# Altium integrated library Altera ACEX 1K.IntLib: 67 symbols (part 7 of 7)
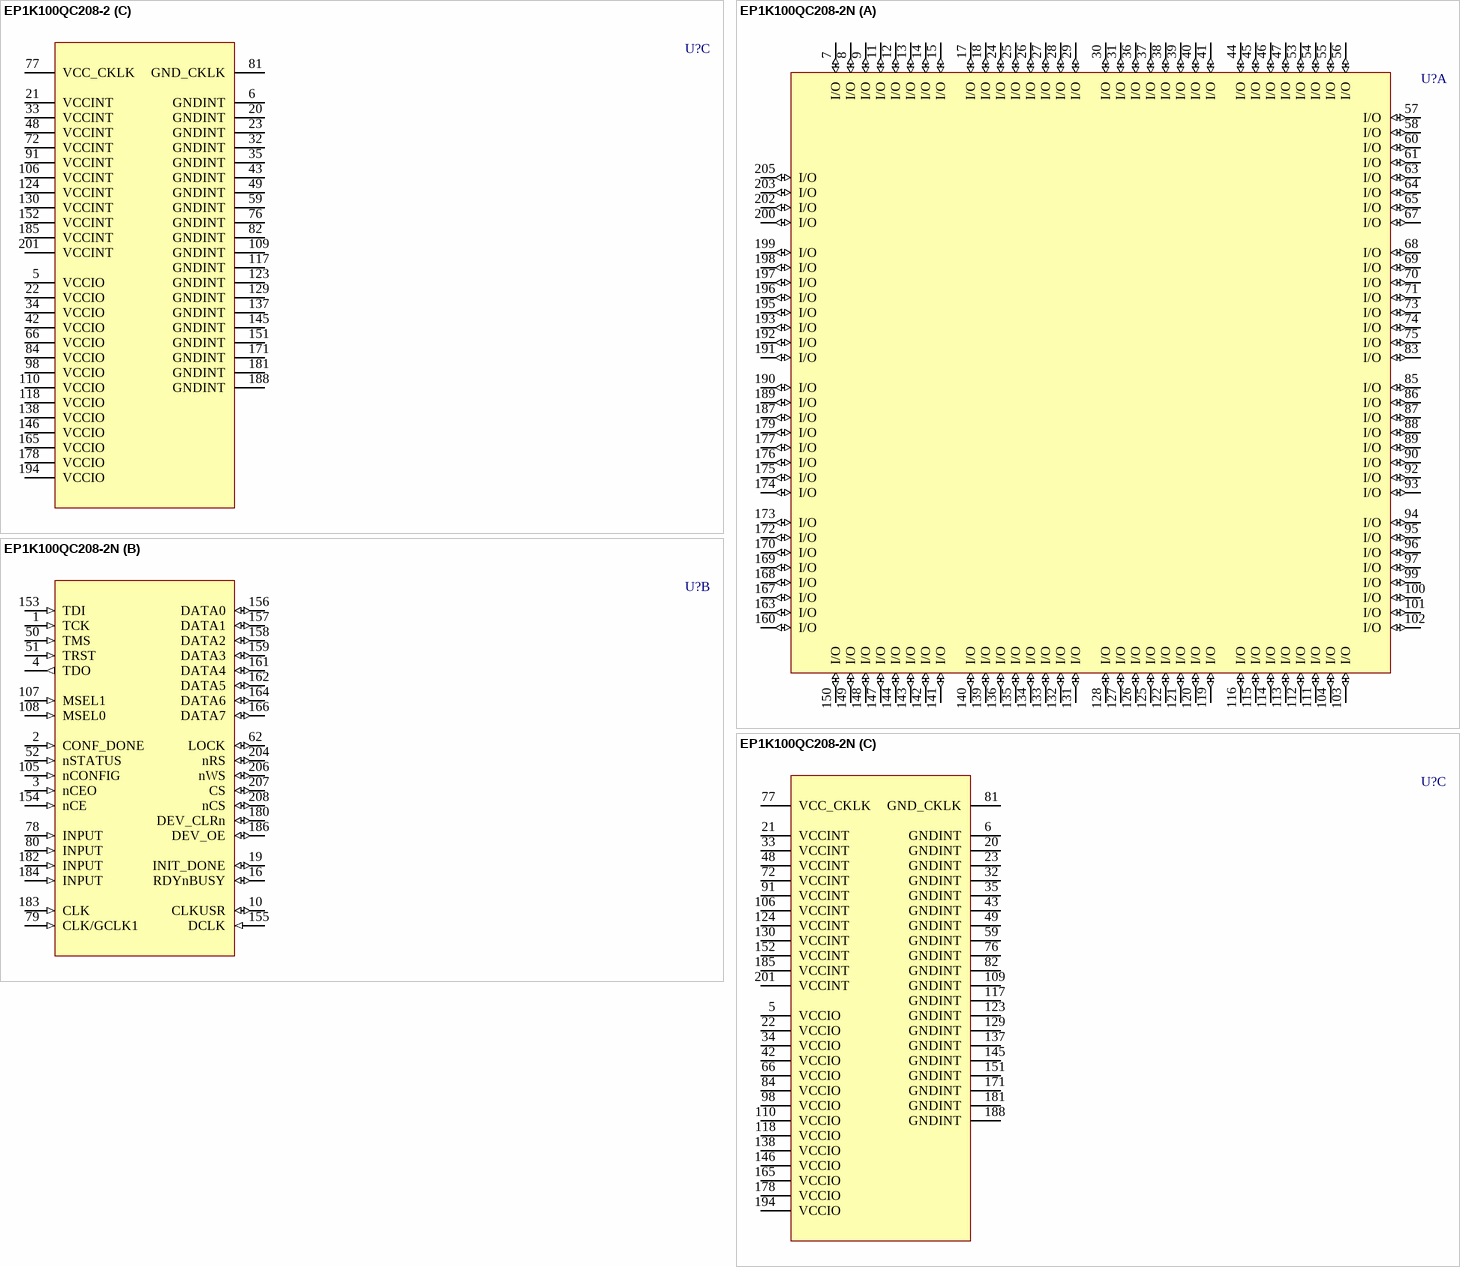
[diagram p79: symbols EP1K100QC208-2 to EP1K100QC208-2N]

## EP1K100QC208-2
designator U?
ACEX 1K PLD with 147 I/O Pins, 208-pin PQFP, Commercial Grade, Speed Grade 2; Published: 17-Jul-2002; LatestRevisionDate: 13-Apr-2006; LatestRevisionNote: IPC-7351 Footprint Added.; DatasheetVersion: May-2003; PackageVersion: ver14.1, Oct-2005; PackageReference: PQFP208; Publisher: Altium Limited; PackageDescription: 208-Pin Plastic Quad Flat Pack (PQFP208); Code_JEDEC: MS-029-FA-1; ComponentLink1Description: Manufacturer Link; ComponentLink1URL: http://www.altera.com/products/devices/acex/acx-index.html; ComponentLink2Description: Datasheet; ComponentLink2URL: http://www.altera.com/literature/ds/acex.pdf
footprint PQFP208_N (Shrink QFP, 208-Leads, Body 28x28mm, Pitch 0.5mm, IPC Medium Density)
footprint PQFP208_L (Shrink QFP, 208-Leads, Body 28x28mm, Pitch 0.5mm, IPC High Density)
footprint PQFP208_M (Shrink QFP, 208-Leads, Body 28x28mm, Pitch 0.5mm, IPC Low Density)
3D model EP1K100-PQFP208 (208-Pin Plastic Quad Flat Pack (PQFP208))
part A pins: 7 I/O (io), 8 I/O (io), 9 I/O (io), 11 I/O (io), 12 I/O (io), 13 I/O (io), 14 I/O (io), 15 I/O (io), 17 I/O (io), 18 I/O (io), 24 I/O (io), 25 I/O (io), 26 I/O (io), 27 I/O (io), 28 I/O (io), 29 I/O (io), 30 I/O (io), 31 I/O (io), 36 I/O (io), 37 I/O (io), 38 I/O (io), 39 I/O (io), 40 I/O (io), 41 I/O (io), 44 I/O (io), 45 I/O (io), 46 I/O (io), 47 I/O (io), 53 I/O (io), 54 I/O (io), 55 I/O (io), 56 I/O (io), 57 I/O (io), 58 I/O (io), 60 I/O (io), 61 I/O (io), 63 I/O (io), 64 I/O (io), 65 I/O (io), 67 I/O (io), 68 I/O (io), 69 I/O (io), 70 I/O (io), 71 I/O (io), 73 I/O (io), 74 I/O (io), 75 I/O (io), 83 I/O (io), 85 I/O (io), 86 I/O (io), 87 I/O (io), 88 I/O (io), 89 I/O (io), 90 I/O (io), 92 I/O (io), 93 I/O (io), 94 I/O (io), 95 I/O (io), 96 I/O (io), 97 I/O (io), 99 I/O (io), 100 I/O (io), 101 I/O (io), 102 I/O (io), 103 I/O (io), 104 I/O (io), 111 I/O (io), 112 I/O (io), 113 I/O (io), 114 I/O (io), 115 I/O (io), 116 I/O (io), 119 I/O (io), 120 I/O (io), 121 I/O (io), 122 I/O (io), 125 I/O (io), 126 I/O (io), 127 I/O (io), 128 I/O (io), 131 I/O (io), 132 I/O (io), 133 I/O (io), 134 I/O (io), 135 I/O (io), 136 I/O (io), 139 I/O (io), 140 I/O (io), 141 I/O (io), 142 I/O (io), 143 I/O (io), 144 I/O (io), 147 I/O (io), 148 I/O (io), 149 I/O (io), 150 I/O (io), 160 I/O (io), 163 I/O (io), 167 I/O (io), 168 I/O (io), 169 I/O (io), 170 I/O (io), 172 I/O (io), 173 I/O (io), 174 I/O (io), 175 I/O (io), 176 I/O (io), 177 I/O (io), 179 I/O (io), 187 I/O (io), 189 I/O (io), 190 I/O (io), 191 I/O (io), 192 I/O (io), 193 I/O (io), 195 I/O (io), 196 I/O (io), 197 I/O (io), 198 I/O (io), 199 I/O (io), 200 I/O (io), 202 I/O (io), 203 I/O (io), 205 I/O (io)
part B pins: 1 TCK (in), 2 CONF_DONE (in), 3 nCEO (in), 4 TDO (out), 10 CLKUSR (io), 16 RDYnBUSY (io), 19 INIT_DONE (io), 50 TMS (in), 51 TRST (in), 52 nSTATUS (in), 62 LOCK (io), 78 INPUT (in), 79 CLK/GCLK1 (in), 80 INPUT (in), 105 nCONFIG (in), 107 MSEL1 (in), 108 MSEL0 (in), 153 TDI (in), 154 nCE (in), 155 DCLK (in), 156 DATA0 (io), 157 DATA1 (io), 158 DATA2 (io), 159 DATA3 (io), 161 DATA4 (io), 162 DATA5 (io), 164 DATA6 (io), 166 DATA7 (io), 180 DEV_CLRn (io), 182 INPUT (in), 183 CLK (in), 184 INPUT (in), 186 DEV_OE (io), 204 nRS (io), 206 nWS (io), 207 CS (io), 208 nCS (io)
part C pins: 5 VCCIO (power), 6 GNDINT (power), 20 GNDINT (power), 21 VCCINT (power), 22 VCCIO (power), 23 GNDINT (power), 32 GNDINT (power), 33 VCCINT (power), 34 VCCIO (power), 35 GNDINT (power), 42 VCCIO (power), 43 GNDINT (power), 48 VCCINT (power), 49 GNDINT (power), 59 GNDINT (power), 66 VCCIO (power), 72 VCCINT (power), 76 GNDINT (power), 77 VCC_CKLK (power), 81 GND_CKLK (power), 82 GNDINT (power), 84 VCCIO (power), 91 VCCINT (power), 98 VCCIO (power), 106 VCCINT (power), 109 GNDINT (power), 110 VCCIO (power), 117 GNDINT (power), 118 VCCIO (power), 123 GNDINT (power), 124 VCCINT (power), 129 GNDINT (power), 130 VCCINT (power), 137 GNDINT (power), 138 VCCIO (power), 145 GNDINT (power), 146 VCCIO (power), 151 GNDINT (power), 152 VCCINT (power), 165 VCCIO (power), 171 GNDINT (power), 178 VCCIO (power), 181 GNDINT (power), 185 VCCINT (power), 188 GNDINT (power), 194 VCCIO (power), 201 VCCINT (power)

## EP1K100QC208-2N
designator U?
ACEX 1K PLD with 147 I/O Pins, 208-pin PQFP, Commercial Grade, Speed Grade 2, Pb-Free; Published: 4-Mar-2005; LatestRevisionDate: 13-Apr-2006; LatestRevisionNote: IPC-7351 Footprint Added.; DatasheetVersion: May-2003; PackageVersion: ver14.1, Oct-2005; PackageReference: PQFP208; Publisher: Altium Limited; PackageDescription: 208-Pin Plastic Quad Flat Pack (PQFP208); Code_JEDEC: MS-029-FA-1; ComponentLink1Description: Manufacturer Link; ComponentLink1URL: http://www.altera.com/products/devices/acex/acx-index.html; ComponentLink2Description: Datasheet; ComponentLink2URL: http://www.altera.com/literature/ds/acex.pdf
footprint PQFP208_N (Shrink QFP, 208-Leads, Body 28x28mm, Pitch 0.5mm, IPC Medium Density)
footprint PQFP208_L (Shrink QFP, 208-Leads, Body 28x28mm, Pitch 0.5mm, IPC High Density)
footprint PQFP208_M (Shrink QFP, 208-Leads, Body 28x28mm, Pitch 0.5mm, IPC Low Density)
3D model EP1K100-PQFP208 (208-Pin Plastic Quad Flat Pack (PQFP208))
part A pins: 7 I/O (io), 8 I/O (io), 9 I/O (io), 11 I/O (io), 12 I/O (io), 13 I/O (io), 14 I/O (io), 15 I/O (io), 17 I/O (io), 18 I/O (io), 24 I/O (io), 25 I/O (io), 26 I/O (io), 27 I/O (io), 28 I/O (io), 29 I/O (io), 30 I/O (io), 31 I/O (io), 36 I/O (io), 37 I/O (io), 38 I/O (io), 39 I/O (io), 40 I/O (io), 41 I/O (io), 44 I/O (io), 45 I/O (io), 46 I/O (io), 47 I/O (io), 53 I/O (io), 54 I/O (io), 55 I/O (io), 56 I/O (io), 57 I/O (io), 58 I/O (io), 60 I/O (io), 61 I/O (io), 63 I/O (io), 64 I/O (io), 65 I/O (io), 67 I/O (io), 68 I/O (io), 69 I/O (io), 70 I/O (io), 71 I/O (io), 73 I/O (io), 74 I/O (io), 75 I/O (io), 83 I/O (io), 85 I/O (io), 86 I/O (io), 87 I/O (io), 88 I/O (io), 89 I/O (io), 90 I/O (io), 92 I/O (io), 93 I/O (io), 94 I/O (io), 95 I/O (io), 96 I/O (io), 97 I/O (io), 99 I/O (io), 100 I/O (io), 101 I/O (io), 102 I/O (io), 103 I/O (io), 104 I/O (io), 111 I/O (io), 112 I/O (io), 113 I/O (io), 114 I/O (io), 115 I/O (io), 116 I/O (io), 119 I/O (io), 120 I/O (io), 121 I/O (io), 122 I/O (io), 125 I/O (io), 126 I/O (io), 127 I/O (io), 128 I/O (io), 131 I/O (io), 132 I/O (io), 133 I/O (io), 134 I/O (io), 135 I/O (io), 136 I/O (io), 139 I/O (io), 140 I/O (io), 141 I/O (io), 142 I/O (io), 143 I/O (io), 144 I/O (io), 147 I/O (io), 148 I/O (io), 149 I/O (io), 150 I/O (io), 160 I/O (io), 163 I/O (io), 167 I/O (io), 168 I/O (io), 169 I/O (io), 170 I/O (io), 172 I/O (io), 173 I/O (io), 174 I/O (io), 175 I/O (io), 176 I/O (io), 177 I/O (io), 179 I/O (io), 187 I/O (io), 189 I/O (io), 190 I/O (io), 191 I/O (io), 192 I/O (io), 193 I/O (io), 195 I/O (io), 196 I/O (io), 197 I/O (io), 198 I/O (io), 199 I/O (io), 200 I/O (io), 202 I/O (io), 203 I/O (io), 205 I/O (io)
part B pins: 1 TCK (in), 2 CONF_DONE (in), 3 nCEO (in), 4 TDO (out), 10 CLKUSR (io), 16 RDYnBUSY (io), 19 INIT_DONE (io), 50 TMS (in), 51 TRST (in), 52 nSTATUS (in), 62 LOCK (io), 78 INPUT (in), 79 CLK/GCLK1 (in), 80 INPUT (in), 105 nCONFIG (in), 107 MSEL1 (in), 108 MSEL0 (in), 153 TDI (in), 154 nCE (in), 155 DCLK (in), 156 DATA0 (io), 157 DATA1 (io), 158 DATA2 (io), 159 DATA3 (io), 161 DATA4 (io), 162 DATA5 (io), 164 DATA6 (io), 166 DATA7 (io), 180 DEV_CLRn (io), 182 INPUT (in), 183 CLK (in), 184 INPUT (in), 186 DEV_OE (io), 204 nRS (io), 206 nWS (io), 207 CS (io), 208 nCS (io)
part C pins: 5 VCCIO (power), 6 GNDINT (power), 20 GNDINT (power), 21 VCCINT (power), 22 VCCIO (power), 23 GNDINT (power), 32 GNDINT (power), 33 VCCINT (power), 34 VCCIO (power), 35 GNDINT (power), 42 VCCIO (power), 43 GNDINT (power), 48 VCCINT (power), 49 GNDINT (power), 59 GNDINT (power), 66 VCCIO (power), 72 VCCINT (power), 76 GNDINT (power), 77 VCC_CKLK (power), 81 GND_CKLK (power), 82 GNDINT (power), 84 VCCIO (power), 91 VCCINT (power), 98 VCCIO (power), 106 VCCINT (power), 109 GNDINT (power), 110 VCCIO (power), 117 GNDINT (power), 118 VCCIO (power), 123 GNDINT (power), 124 VCCINT (power), 129 GNDINT (power), 130 VCCINT (power), 137 GNDINT (power), 138 VCCIO (power), 145 GNDINT (power), 146 VCCIO (power), 151 GNDINT (power), 152 VCCINT (power), 165 VCCIO (power), 171 GNDINT (power), 178 VCCIO (power), 181 GNDINT (power), 185 VCCINT (power), 188 GNDINT (power), 194 VCCIO (power), 201 VCCINT (power)

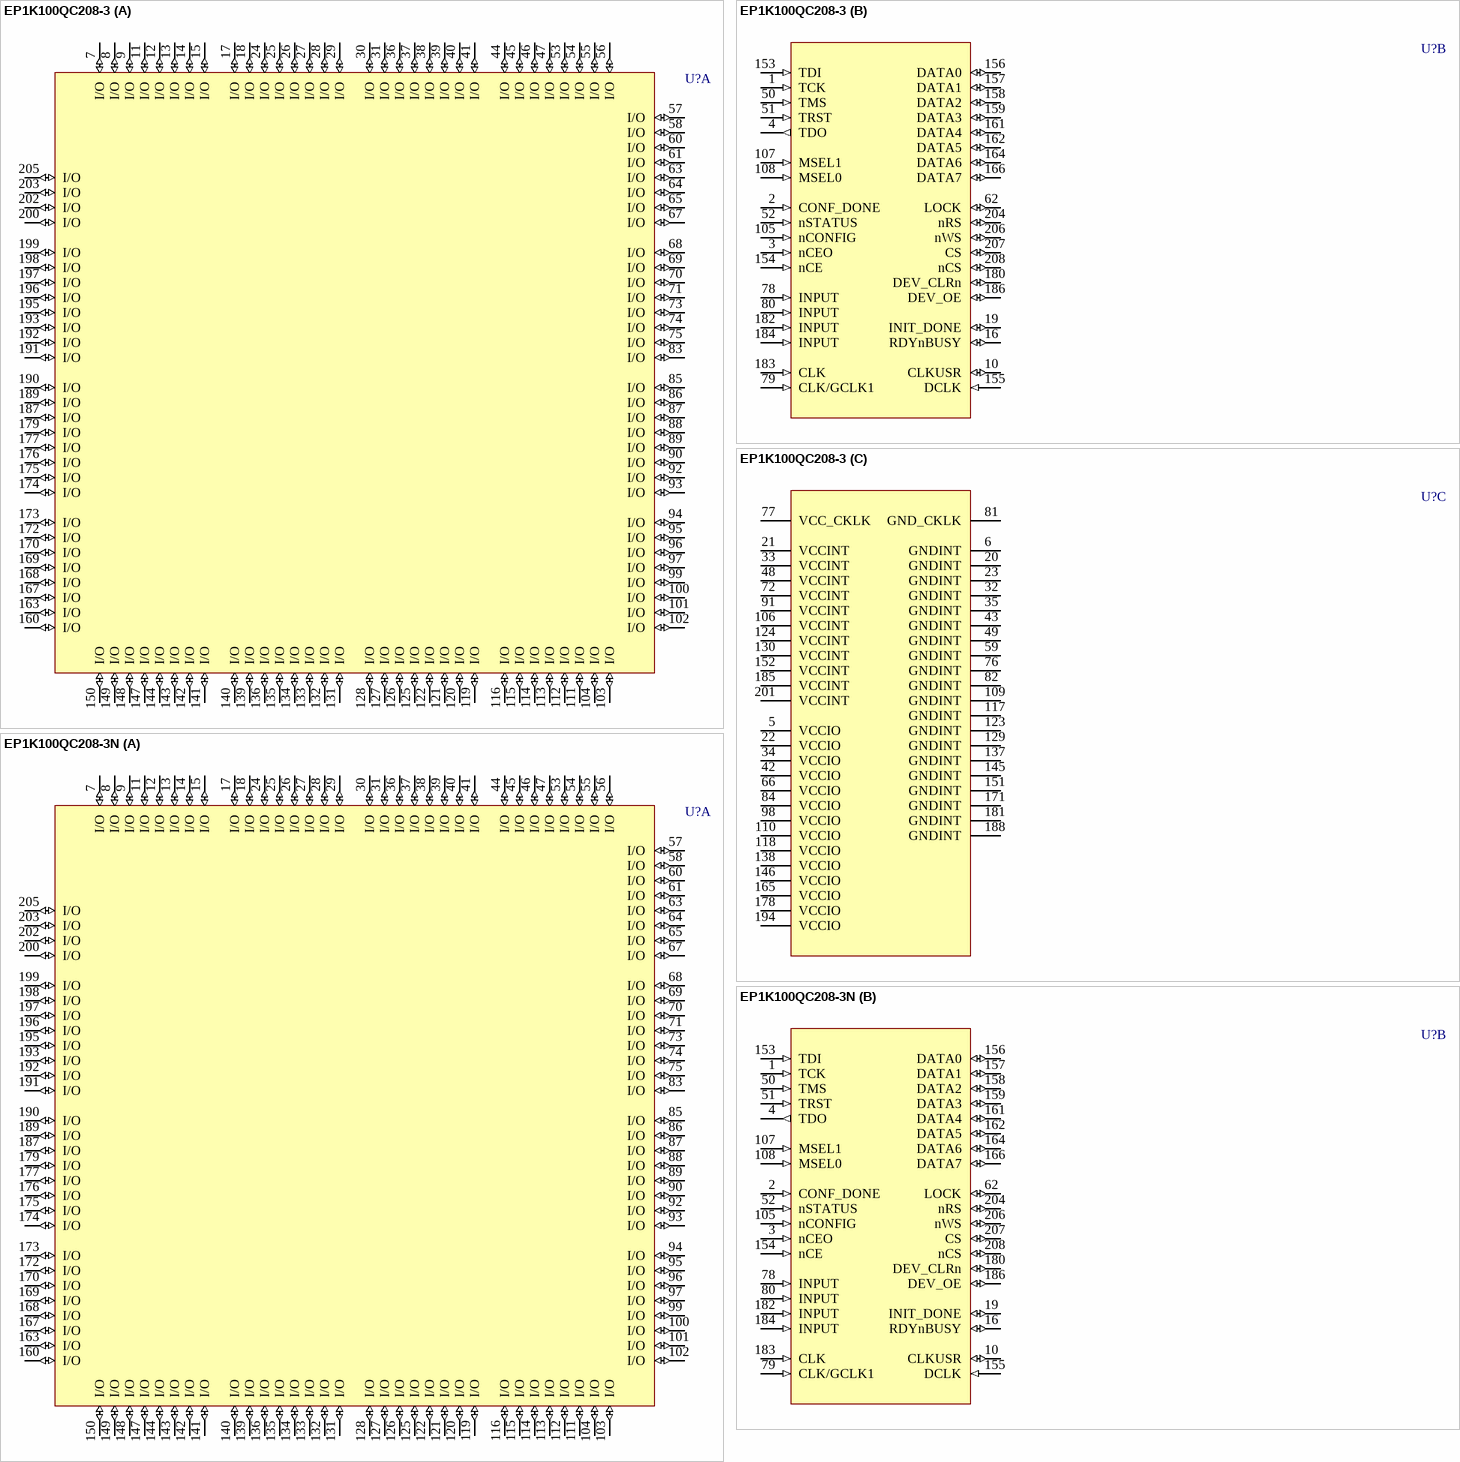
[diagram p72: symbols EP1K100QC208-3 to EP1K100QC208-3N]

## EP1K100QC208-3
designator U?
ACEX 1K PLD with 147 I/O Pins, 208-pin PQFP, Commercial Grade, Speed Grade 3; Published: 17-Jul-2002; LatestRevisionDate: 13-Apr-2006; LatestRevisionNote: IPC-7351 Footprint Added.; DatasheetVersion: May-2003; PackageVersion: ver14.1, Oct-2005; PackageReference: PQFP208; Publisher: Altium Limited; PackageDescription: 208-Pin Plastic Quad Flat Pack (PQFP208); Code_JEDEC: MS-029-FA-1; ComponentLink1Description: Manufacturer Link; ComponentLink1URL: http://www.altera.com/products/devices/acex/acx-index.html; ComponentLink2Description: Datasheet; ComponentLink2URL: http://www.altera.com/literature/ds/acex.pdf
footprint PQFP208_N (Shrink QFP, 208-Leads, Body 28x28mm, Pitch 0.5mm, IPC Medium Density)
footprint PQFP208_L (Shrink QFP, 208-Leads, Body 28x28mm, Pitch 0.5mm, IPC High Density)
footprint PQFP208_M (Shrink QFP, 208-Leads, Body 28x28mm, Pitch 0.5mm, IPC Low Density)
3D model EP1K100-PQFP208 (208-Pin Plastic Quad Flat Pack (PQFP208))
part A pins: 7 I/O (io), 8 I/O (io), 9 I/O (io), 11 I/O (io), 12 I/O (io), 13 I/O (io), 14 I/O (io), 15 I/O (io), 17 I/O (io), 18 I/O (io), 24 I/O (io), 25 I/O (io), 26 I/O (io), 27 I/O (io), 28 I/O (io), 29 I/O (io), 30 I/O (io), 31 I/O (io), 36 I/O (io), 37 I/O (io), 38 I/O (io), 39 I/O (io), 40 I/O (io), 41 I/O (io), 44 I/O (io), 45 I/O (io), 46 I/O (io), 47 I/O (io), 53 I/O (io), 54 I/O (io), 55 I/O (io), 56 I/O (io), 57 I/O (io), 58 I/O (io), 60 I/O (io), 61 I/O (io), 63 I/O (io), 64 I/O (io), 65 I/O (io), 67 I/O (io), 68 I/O (io), 69 I/O (io), 70 I/O (io), 71 I/O (io), 73 I/O (io), 74 I/O (io), 75 I/O (io), 83 I/O (io), 85 I/O (io), 86 I/O (io), 87 I/O (io), 88 I/O (io), 89 I/O (io), 90 I/O (io), 92 I/O (io), 93 I/O (io), 94 I/O (io), 95 I/O (io), 96 I/O (io), 97 I/O (io), 99 I/O (io), 100 I/O (io), 101 I/O (io), 102 I/O (io), 103 I/O (io), 104 I/O (io), 111 I/O (io), 112 I/O (io), 113 I/O (io), 114 I/O (io), 115 I/O (io), 116 I/O (io), 119 I/O (io), 120 I/O (io), 121 I/O (io), 122 I/O (io), 125 I/O (io), 126 I/O (io), 127 I/O (io), 128 I/O (io), 131 I/O (io), 132 I/O (io), 133 I/O (io), 134 I/O (io), 135 I/O (io), 136 I/O (io), 139 I/O (io), 140 I/O (io), 141 I/O (io), 142 I/O (io), 143 I/O (io), 144 I/O (io), 147 I/O (io), 148 I/O (io), 149 I/O (io), 150 I/O (io), 160 I/O (io), 163 I/O (io), 167 I/O (io), 168 I/O (io), 169 I/O (io), 170 I/O (io), 172 I/O (io), 173 I/O (io), 174 I/O (io), 175 I/O (io), 176 I/O (io), 177 I/O (io), 179 I/O (io), 187 I/O (io), 189 I/O (io), 190 I/O (io), 191 I/O (io), 192 I/O (io), 193 I/O (io), 195 I/O (io), 196 I/O (io), 197 I/O (io), 198 I/O (io), 199 I/O (io), 200 I/O (io), 202 I/O (io), 203 I/O (io), 205 I/O (io)
part B pins: 1 TCK (in), 2 CONF_DONE (in), 3 nCEO (in), 4 TDO (out), 10 CLKUSR (io), 16 RDYnBUSY (io), 19 INIT_DONE (io), 50 TMS (in), 51 TRST (in), 52 nSTATUS (in), 62 LOCK (io), 78 INPUT (in), 79 CLK/GCLK1 (in), 80 INPUT (in), 105 nCONFIG (in), 107 MSEL1 (in), 108 MSEL0 (in), 153 TDI (in), 154 nCE (in), 155 DCLK (in), 156 DATA0 (io), 157 DATA1 (io), 158 DATA2 (io), 159 DATA3 (io), 161 DATA4 (io), 162 DATA5 (io), 164 DATA6 (io), 166 DATA7 (io), 180 DEV_CLRn (io), 182 INPUT (in), 183 CLK (in), 184 INPUT (in), 186 DEV_OE (io), 204 nRS (io), 206 nWS (io), 207 CS (io), 208 nCS (io)
part C pins: 5 VCCIO (power), 6 GNDINT (power), 20 GNDINT (power), 21 VCCINT (power), 22 VCCIO (power), 23 GNDINT (power), 32 GNDINT (power), 33 VCCINT (power), 34 VCCIO (power), 35 GNDINT (power), 42 VCCIO (power), 43 GNDINT (power), 48 VCCINT (power), 49 GNDINT (power), 59 GNDINT (power), 66 VCCIO (power), 72 VCCINT (power), 76 GNDINT (power), 77 VCC_CKLK (power), 81 GND_CKLK (power), 82 GNDINT (power), 84 VCCIO (power), 91 VCCINT (power), 98 VCCIO (power), 106 VCCINT (power), 109 GNDINT (power), 110 VCCIO (power), 117 GNDINT (power), 118 VCCIO (power), 123 GNDINT (power), 124 VCCINT (power), 129 GNDINT (power), 130 VCCINT (power), 137 GNDINT (power), 138 VCCIO (power), 145 GNDINT (power), 146 VCCIO (power), 151 GNDINT (power), 152 VCCINT (power), 165 VCCIO (power), 171 GNDINT (power), 178 VCCIO (power), 181 GNDINT (power), 185 VCCINT (power), 188 GNDINT (power), 194 VCCIO (power), 201 VCCINT (power)

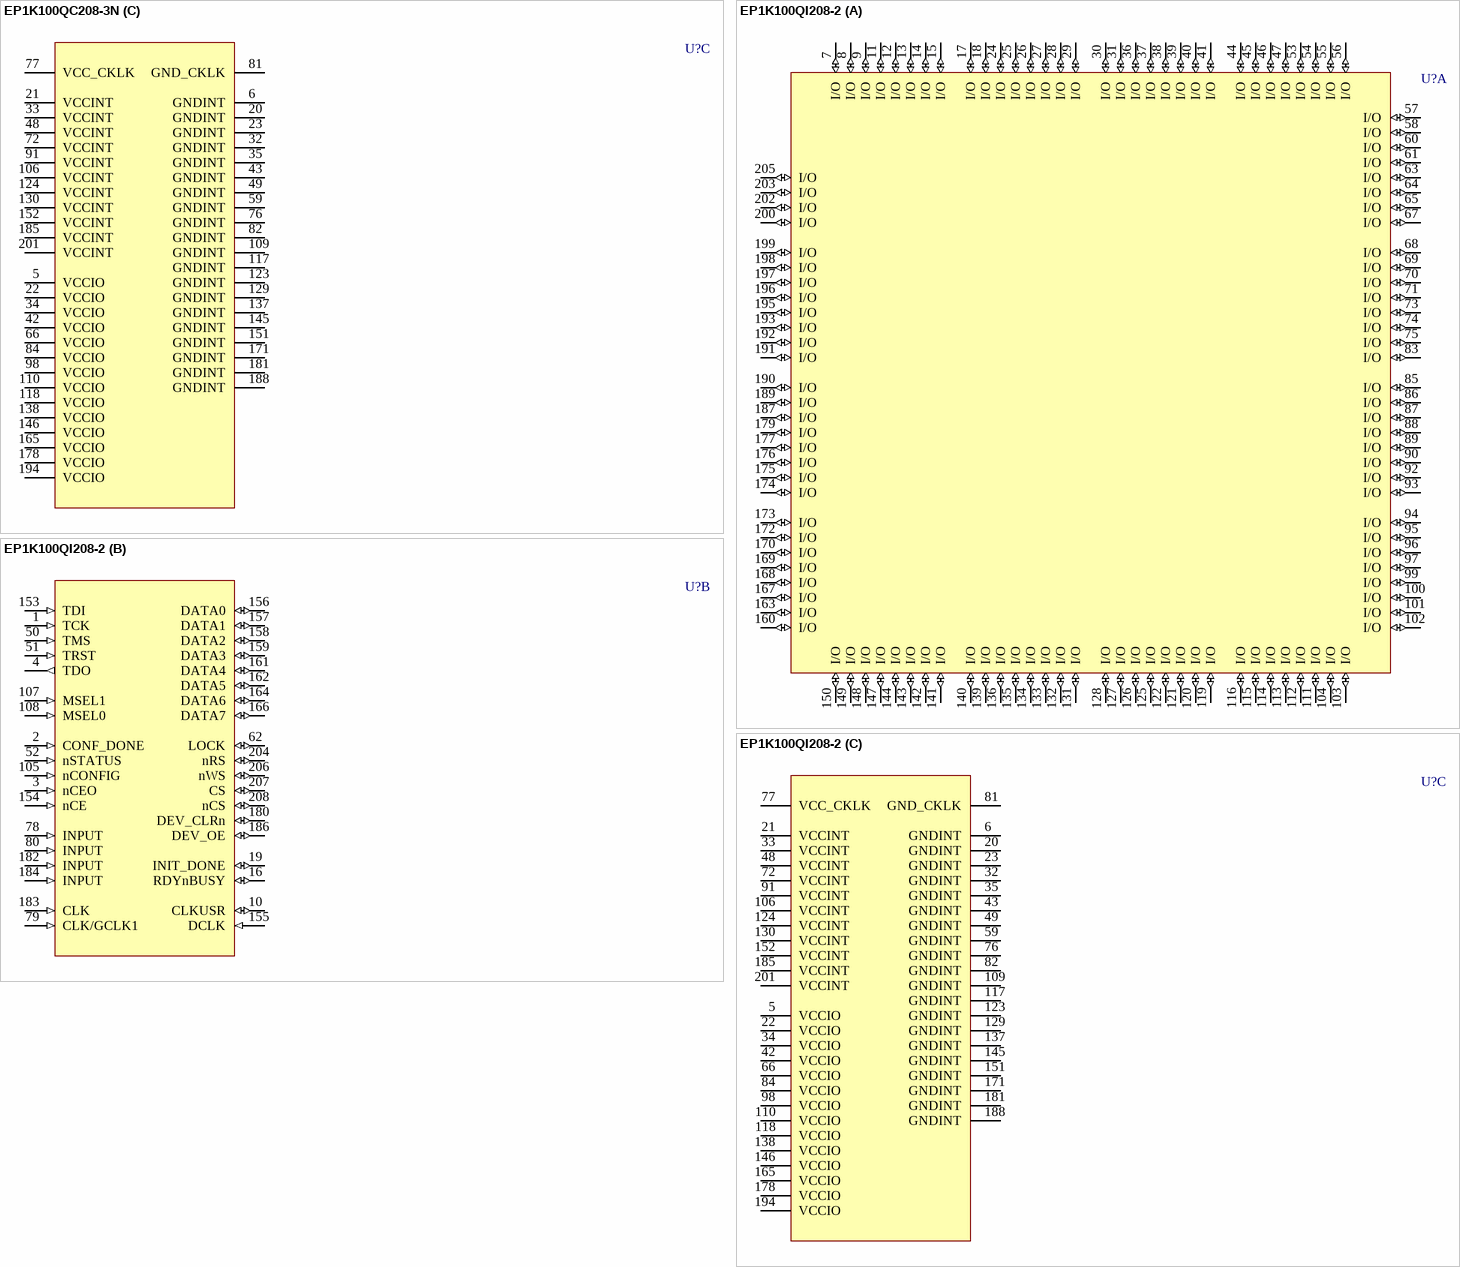
[diagram p73: symbols EP1K100QC208-3N to EP1K100QI208-2]

## EP1K100QC208-3N
designator U?
ACEX 1K PLD with 147 I/O Pins, 208-pin PQFP, Commercial Grade, Speed Grade 3, Pb-Free; Published: 4-Mar-2005; LatestRevisionDate: 13-Apr-2006; LatestRevisionNote: IPC-7351 Footprint Added.; DatasheetVersion: May-2003; PackageVersion: ver14.1, Oct-2005; PackageReference: PQFP208; Publisher: Altium Limited; PackageDescription: 208-Pin Plastic Quad Flat Pack (PQFP208); Code_JEDEC: MS-029-FA-1; ComponentLink1Description: Manufacturer Link; ComponentLink1URL: http://www.altera.com/products/devices/acex/acx-index.html; ComponentLink2Description: Datasheet; ComponentLink2URL: http://www.altera.com/literature/ds/acex.pdf
footprint PQFP208_N (Shrink QFP, 208-Leads, Body 28x28mm, Pitch 0.5mm, IPC Medium Density)
footprint PQFP208_L (Shrink QFP, 208-Leads, Body 28x28mm, Pitch 0.5mm, IPC High Density)
footprint PQFP208_M (Shrink QFP, 208-Leads, Body 28x28mm, Pitch 0.5mm, IPC Low Density)
3D model EP1K100-PQFP208 (208-Pin Plastic Quad Flat Pack (PQFP208))
part A pins: 7 I/O (io), 8 I/O (io), 9 I/O (io), 11 I/O (io), 12 I/O (io), 13 I/O (io), 14 I/O (io), 15 I/O (io), 17 I/O (io), 18 I/O (io), 24 I/O (io), 25 I/O (io), 26 I/O (io), 27 I/O (io), 28 I/O (io), 29 I/O (io), 30 I/O (io), 31 I/O (io), 36 I/O (io), 37 I/O (io), 38 I/O (io), 39 I/O (io), 40 I/O (io), 41 I/O (io), 44 I/O (io), 45 I/O (io), 46 I/O (io), 47 I/O (io), 53 I/O (io), 54 I/O (io), 55 I/O (io), 56 I/O (io), 57 I/O (io), 58 I/O (io), 60 I/O (io), 61 I/O (io), 63 I/O (io), 64 I/O (io), 65 I/O (io), 67 I/O (io), 68 I/O (io), 69 I/O (io), 70 I/O (io), 71 I/O (io), 73 I/O (io), 74 I/O (io), 75 I/O (io), 83 I/O (io), 85 I/O (io), 86 I/O (io), 87 I/O (io), 88 I/O (io), 89 I/O (io), 90 I/O (io), 92 I/O (io), 93 I/O (io), 94 I/O (io), 95 I/O (io), 96 I/O (io), 97 I/O (io), 99 I/O (io), 100 I/O (io), 101 I/O (io), 102 I/O (io), 103 I/O (io), 104 I/O (io), 111 I/O (io), 112 I/O (io), 113 I/O (io), 114 I/O (io), 115 I/O (io), 116 I/O (io), 119 I/O (io), 120 I/O (io), 121 I/O (io), 122 I/O (io), 125 I/O (io), 126 I/O (io), 127 I/O (io), 128 I/O (io), 131 I/O (io), 132 I/O (io), 133 I/O (io), 134 I/O (io), 135 I/O (io), 136 I/O (io), 139 I/O (io), 140 I/O (io), 141 I/O (io), 142 I/O (io), 143 I/O (io), 144 I/O (io), 147 I/O (io), 148 I/O (io), 149 I/O (io), 150 I/O (io), 160 I/O (io), 163 I/O (io), 167 I/O (io), 168 I/O (io), 169 I/O (io), 170 I/O (io), 172 I/O (io), 173 I/O (io), 174 I/O (io), 175 I/O (io), 176 I/O (io), 177 I/O (io), 179 I/O (io), 187 I/O (io), 189 I/O (io), 190 I/O (io), 191 I/O (io), 192 I/O (io), 193 I/O (io), 195 I/O (io), 196 I/O (io), 197 I/O (io), 198 I/O (io), 199 I/O (io), 200 I/O (io), 202 I/O (io), 203 I/O (io), 205 I/O (io)
part B pins: 1 TCK (in), 2 CONF_DONE (in), 3 nCEO (in), 4 TDO (out), 10 CLKUSR (io), 16 RDYnBUSY (io), 19 INIT_DONE (io), 50 TMS (in), 51 TRST (in), 52 nSTATUS (in), 62 LOCK (io), 78 INPUT (in), 79 CLK/GCLK1 (in), 80 INPUT (in), 105 nCONFIG (in), 107 MSEL1 (in), 108 MSEL0 (in), 153 TDI (in), 154 nCE (in), 155 DCLK (in), 156 DATA0 (io), 157 DATA1 (io), 158 DATA2 (io), 159 DATA3 (io), 161 DATA4 (io), 162 DATA5 (io), 164 DATA6 (io), 166 DATA7 (io), 180 DEV_CLRn (io), 182 INPUT (in), 183 CLK (in), 184 INPUT (in), 186 DEV_OE (io), 204 nRS (io), 206 nWS (io), 207 CS (io), 208 nCS (io)
part C pins: 5 VCCIO (power), 6 GNDINT (power), 20 GNDINT (power), 21 VCCINT (power), 22 VCCIO (power), 23 GNDINT (power), 32 GNDINT (power), 33 VCCINT (power), 34 VCCIO (power), 35 GNDINT (power), 42 VCCIO (power), 43 GNDINT (power), 48 VCCINT (power), 49 GNDINT (power), 59 GNDINT (power), 66 VCCIO (power), 72 VCCINT (power), 76 GNDINT (power), 77 VCC_CKLK (power), 81 GND_CKLK (power), 82 GNDINT (power), 84 VCCIO (power), 91 VCCINT (power), 98 VCCIO (power), 106 VCCINT (power), 109 GNDINT (power), 110 VCCIO (power), 117 GNDINT (power), 118 VCCIO (power), 123 GNDINT (power), 124 VCCINT (power), 129 GNDINT (power), 130 VCCINT (power), 137 GNDINT (power), 138 VCCIO (power), 145 GNDINT (power), 146 VCCIO (power), 151 GNDINT (power), 152 VCCINT (power), 165 VCCIO (power), 171 GNDINT (power), 178 VCCIO (power), 181 GNDINT (power), 185 VCCINT (power), 188 GNDINT (power), 194 VCCIO (power), 201 VCCINT (power)

## EP1K100QI208-2
designator U?
ACEX 1K PLD with 147 I/O Pins, 208-pin PQFP, Industrial Grade, Speed Grade 2; Published: 17-Jul-2002; LatestRevisionDate: 13-Apr-2006; LatestRevisionNote: IPC-7351 Footprint Added.; DatasheetVersion: May-2003; PackageVersion: ver14.1, Oct-2005; PackageReference: PQFP208; Publisher: Altium Limited; PackageDescription: 208-Pin Plastic Quad Flat Pack (PQFP208); Code_JEDEC: MS-029-FA-1; ComponentLink1Description: Manufacturer Link; ComponentLink1URL: http://www.altera.com/products/devices/acex/acx-index.html; ComponentLink2Description: Datasheet; ComponentLink2URL: http://www.altera.com/literature/ds/acex.pdf
footprint PQFP208_N (Shrink QFP, 208-Leads, Body 28x28mm, Pitch 0.5mm, IPC Medium Density)
footprint PQFP208_L (Shrink QFP, 208-Leads, Body 28x28mm, Pitch 0.5mm, IPC High Density)
footprint PQFP208_M (Shrink QFP, 208-Leads, Body 28x28mm, Pitch 0.5mm, IPC Low Density)
3D model EP1K100-PQFP208 (208-Pin Plastic Quad Flat Pack (PQFP208))
part A pins: 7 I/O (io), 8 I/O (io), 9 I/O (io), 11 I/O (io), 12 I/O (io), 13 I/O (io), 14 I/O (io), 15 I/O (io), 17 I/O (io), 18 I/O (io), 24 I/O (io), 25 I/O (io), 26 I/O (io), 27 I/O (io), 28 I/O (io), 29 I/O (io), 30 I/O (io), 31 I/O (io), 36 I/O (io), 37 I/O (io), 38 I/O (io), 39 I/O (io), 40 I/O (io), 41 I/O (io), 44 I/O (io), 45 I/O (io), 46 I/O (io), 47 I/O (io), 53 I/O (io), 54 I/O (io), 55 I/O (io), 56 I/O (io), 57 I/O (io), 58 I/O (io), 60 I/O (io), 61 I/O (io), 63 I/O (io), 64 I/O (io), 65 I/O (io), 67 I/O (io), 68 I/O (io), 69 I/O (io), 70 I/O (io), 71 I/O (io), 73 I/O (io), 74 I/O (io), 75 I/O (io), 83 I/O (io), 85 I/O (io), 86 I/O (io), 87 I/O (io), 88 I/O (io), 89 I/O (io), 90 I/O (io), 92 I/O (io), 93 I/O (io), 94 I/O (io), 95 I/O (io), 96 I/O (io), 97 I/O (io), 99 I/O (io), 100 I/O (io), 101 I/O (io), 102 I/O (io), 103 I/O (io), 104 I/O (io), 111 I/O (io), 112 I/O (io), 113 I/O (io), 114 I/O (io), 115 I/O (io), 116 I/O (io), 119 I/O (io), 120 I/O (io), 121 I/O (io), 122 I/O (io), 125 I/O (io), 126 I/O (io), 127 I/O (io), 128 I/O (io), 131 I/O (io), 132 I/O (io), 133 I/O (io), 134 I/O (io), 135 I/O (io), 136 I/O (io), 139 I/O (io), 140 I/O (io), 141 I/O (io), 142 I/O (io), 143 I/O (io), 144 I/O (io), 147 I/O (io), 148 I/O (io), 149 I/O (io), 150 I/O (io), 160 I/O (io), 163 I/O (io), 167 I/O (io), 168 I/O (io), 169 I/O (io), 170 I/O (io), 172 I/O (io), 173 I/O (io), 174 I/O (io), 175 I/O (io), 176 I/O (io), 177 I/O (io), 179 I/O (io), 187 I/O (io), 189 I/O (io), 190 I/O (io), 191 I/O (io), 192 I/O (io), 193 I/O (io), 195 I/O (io), 196 I/O (io), 197 I/O (io), 198 I/O (io), 199 I/O (io), 200 I/O (io), 202 I/O (io), 203 I/O (io), 205 I/O (io)
part B pins: 1 TCK (in), 2 CONF_DONE (in), 3 nCEO (in), 4 TDO (out), 10 CLKUSR (io), 16 RDYnBUSY (io), 19 INIT_DONE (io), 50 TMS (in), 51 TRST (in), 52 nSTATUS (in), 62 LOCK (io), 78 INPUT (in), 79 CLK/GCLK1 (in), 80 INPUT (in), 105 nCONFIG (in), 107 MSEL1 (in), 108 MSEL0 (in), 153 TDI (in), 154 nCE (in), 155 DCLK (in), 156 DATA0 (io), 157 DATA1 (io), 158 DATA2 (io), 159 DATA3 (io), 161 DATA4 (io), 162 DATA5 (io), 164 DATA6 (io), 166 DATA7 (io), 180 DEV_CLRn (io), 182 INPUT (in), 183 CLK (in), 184 INPUT (in), 186 DEV_OE (io), 204 nRS (io), 206 nWS (io), 207 CS (io), 208 nCS (io)
part C pins: 5 VCCIO (power), 6 GNDINT (power), 20 GNDINT (power), 21 VCCINT (power), 22 VCCIO (power), 23 GNDINT (power), 32 GNDINT (power), 33 VCCINT (power), 34 VCCIO (power), 35 GNDINT (power), 42 VCCIO (power), 43 GNDINT (power), 48 VCCINT (power), 49 GNDINT (power), 59 GNDINT (power), 66 VCCIO (power), 72 VCCINT (power), 76 GNDINT (power), 77 VCC_CKLK (power), 81 GND_CKLK (power), 82 GNDINT (power), 84 VCCIO (power), 91 VCCINT (power), 98 VCCIO (power), 106 VCCINT (power), 109 GNDINT (power), 110 VCCIO (power), 117 GNDINT (power), 118 VCCIO (power), 123 GNDINT (power), 124 VCCINT (power), 129 GNDINT (power), 130 VCCINT (power), 137 GNDINT (power), 138 VCCIO (power), 145 GNDINT (power), 146 VCCIO (power), 151 GNDINT (power), 152 VCCINT (power), 165 VCCIO (power), 171 GNDINT (power), 178 VCCIO (power), 181 GNDINT (power), 185 VCCINT (power), 188 GNDINT (power), 194 VCCIO (power), 201 VCCINT (power)